# EAGLE library part STM32-H103 (library stm32)
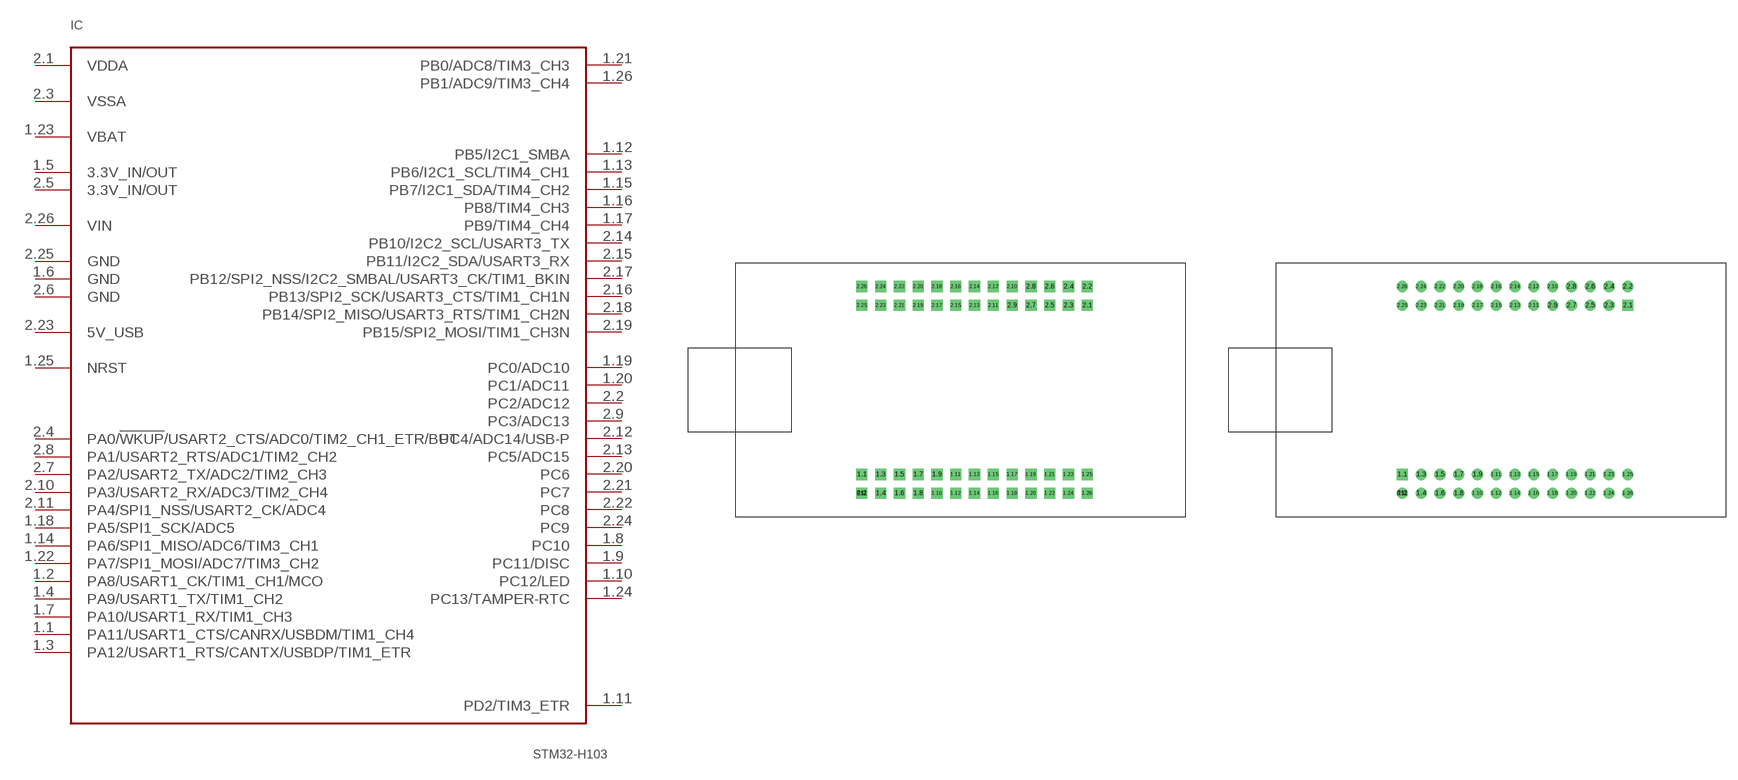
[diagram p6: symbol with the pads of OLIMEX_H103; footprints OLIMEX_H103, OLIMEX_H103_P]

Designator prefix IC

## STM32-H103-MH  [OLIMEX_H103]
1.1  PA11/USART1_CTS/CANRX/USBDM/TIM1_CH4
1.2  PA8/USART1_CK/TIM1_CH1/MCO
1.3  PA12/USART1_RTS/CANTX/USBDP/TIM1_ETR
1.4  PA9/USART1_TX/TIM1_CH2
1.5  3.3V_IN/OUT  pwr
1.6  GND  pwr
1.7  PA10/USART1_RX/TIM1_CH3
1.8  PC10
1.9  PC11/DISC
1.10  PC12/LED
1.11  PD2/TIM3_ETR
1.12  PB5/I2C1_SMBA
1.13  PB6/I2C1_SCL/TIM4_CH1
1.14  PA6/SPI1_MISO/ADC6/TIM3_CH1
1.15  PB7/I2C1_SDA/TIM4_CH2
1.16  PB8/TIM4_CH3
1.17  PB9/TIM4_CH4
1.18  PA5/SPI1_SCK/ADC5
1.19  PC0/ADC10
1.20  PC1/ADC11
1.21  PB0/ADC8/TIM3_CH3
1.22  PA7/SPI1_MOSI/ADC7/TIM3_CH2
1.23  VBAT  pwr
1.24  PC13/TAMPER-RTC
1.25  NRST
1.26  PB1/ADC9/TIM3_CH4
2.1  VDDA  pwr
2.2  PC2/ADC12
2.3  VSSA  pwr
2.4  PA0/!WKUP!/USART2_CTS/ADC0/TIM2_CH1_ETR/BUT
2.5  3.3V_IN/OUT  pwr
2.6  GND  pwr
2.7  PA2/USART2_TX/ADC2/TIM2_CH3
2.8  PA1/USART2_RTS/ADC1/TIM2_CH2
2.9  PC3/ADC13
2.10  PA3/USART2_RX/ADC3/TIM2_CH4
2.11  PA4/SPI1_NSS/USART2_CK/ADC4
2.12  PC4/ADC14/USB-P
2.13  PC5/ADC15
2.14  PB10/I2C2_SCL/USART3_TX
2.15  PB11/I2C2_SDA/USART3_RX
2.16  PB13/SPI2_SCK/USART3_CTS/TIM1_CH1N
2.17  PB12/SPI2_NSS/I2C2_SMBAL/USART3_CK/TIM1_BKIN
2.18  PB14/SPI2_MISO/USART3_RTS/TIM1_CH2N
2.19  PB15/SPI2_MOSI/TIM1_CH3N
2.20  PC6
2.21  PC7
2.22  PC8
2.23  5V_USB  pwr
2.24  PC9
2.25  GND  pwr
2.26  VIN  pwr

## STM32-H103  [OLIMEX_H103_P]
1.1  PA11/USART1_CTS/CANRX/USBDM/TIM1_CH4
1.2  PA8/USART1_CK/TIM1_CH1/MCO
1.3  PA12/USART1_RTS/CANTX/USBDP/TIM1_ETR
1.4  PA9/USART1_TX/TIM1_CH2
1.5  3.3V_IN/OUT  pwr
1.6  GND  pwr
1.7  PA10/USART1_RX/TIM1_CH3
1.8  PC10
1.9  PC11/DISC
1.10  PC12/LED
1.11  PD2/TIM3_ETR
1.12  PB5/I2C1_SMBA
1.13  PB6/I2C1_SCL/TIM4_CH1
1.14  PA6/SPI1_MISO/ADC6/TIM3_CH1
1.15  PB7/I2C1_SDA/TIM4_CH2
1.16  PB8/TIM4_CH3
1.17  PB9/TIM4_CH4
1.18  PA5/SPI1_SCK/ADC5
1.19  PC0/ADC10
1.20  PC1/ADC11
1.21  PB0/ADC8/TIM3_CH3
1.22  PA7/SPI1_MOSI/ADC7/TIM3_CH2
1.23  VBAT  pwr
1.24  PC13/TAMPER-RTC
1.25  NRST
1.26  PB1/ADC9/TIM3_CH4
2.1  VDDA  pwr
2.2  PC2/ADC12
2.3  VSSA  pwr
2.4  PA0/!WKUP!/USART2_CTS/ADC0/TIM2_CH1_ETR/BUT
2.5  3.3V_IN/OUT  pwr
2.6  GND  pwr
2.7  PA2/USART2_TX/ADC2/TIM2_CH3
2.8  PA1/USART2_RTS/ADC1/TIM2_CH2
2.9  PC3/ADC13
2.10  PA3/USART2_RX/ADC3/TIM2_CH4
2.11  PA4/SPI1_NSS/USART2_CK/ADC4
2.12  PC4/ADC14/USB-P
2.13  PC5/ADC15
2.14  PB10/I2C2_SCL/USART3_TX
2.15  PB11/I2C2_SDA/USART3_RX
2.16  PB13/SPI2_SCK/USART3_CTS/TIM1_CH1N
2.17  PB12/SPI2_NSS/I2C2_SMBAL/USART3_CK/TIM1_BKIN
2.18  PB14/SPI2_MISO/USART3_RTS/TIM1_CH2N
2.19  PB15/SPI2_MOSI/TIM1_CH3N
2.20  PC6
2.21  PC7
2.22  PC8
2.23  5V_USB  pwr
2.24  PC9
2.25  GND  pwr
2.26  VIN  pwr

## Footprint OLIMEX_H103 (pad centres in mm)
drill 1 square: 1.1 17.145,5.715; 1.2 17.145,3.175; 1.3 19.685,5.715; 1.4 19.685,3.175; 1.5 22.225,5.715; 1.6 22.225,3.175; 1.7 24.765,5.715; 1.8 24.765,3.175; 1.9 27.305,5.715; 1.10 27.305,3.175; 1.11 29.845,5.715; 1.12 29.845,3.175; 1.13 32.385,5.715; 1.14 32.385,3.175; 1.15 34.925,5.715; 1.16 34.925,3.175; 1.17 37.465,5.715; 1.18 37.465,3.175; 1.19 40.005,5.715; 1.20 40.005,3.175; 1.21 42.545,5.715; 1.22 42.545,3.175; 1.23 45.085,5.715; 1.24 45.085,3.175; 1.25 47.625,5.715; 1.26 47.625,3.175; 2.1 47.625,28.575; 2.2 47.625,31.115; 2.3 45.085,28.575; 2.4 45.085,31.115; 2.5 42.545,28.575; 2.6 42.545,31.115; 2.7 40.005,28.575; 2.8 40.005,31.115; 2.9 37.465,28.575; 2.10 37.465,31.115; 2.11 34.925,28.575; 2.12 34.925,31.115; 2.13 32.385,28.575; 2.14 32.385,31.115; 2.15 29.845,28.575; 2.16 29.845,31.115; 2.17 27.305,28.575; 2.18 27.305,31.115; 2.19 24.765,28.575; 2.20 24.765,31.115; 2.21 22.225,28.575; 2.22 22.225,31.115; 2.23 19.685,28.575; 2.24 19.685,31.115; 2.25 17.145,28.575; 2.26 17.145,31.115
drill 0.8 square: P$1 17.145,3.175

## Footprint OLIMEX_H103_P (pad centres in mm)
drill 1 square: 1.1 -13.335,-10.795; 2.1 17.145,12.065
drill 1 round: 1.2 -13.335,-13.335; 1.3 -10.795,-10.795; 1.4 -10.795,-13.335; 1.5 -8.255,-10.795; 1.6 -8.255,-13.335; 1.7 -5.715,-10.795; 1.8 -5.715,-13.335; 1.9 -3.175,-10.795; 1.10 -3.175,-13.335; 1.11 -0.635,-10.795; 1.12 -0.635,-13.335; 1.13 1.905,-10.795; 1.14 1.905,-13.335; 1.15 4.445,-10.795; 1.16 4.445,-13.335; 1.17 6.985,-10.795; 1.18 6.985,-13.335; 1.19 9.525,-10.795; 1.20 9.525,-13.335; 1.21 12.065,-10.795; 1.22 12.065,-13.335; 1.23 14.605,-10.795; 1.24 14.605,-13.335; 1.25 17.145,-10.795; 1.26 17.145,-13.335; 2.2 17.145,14.605; 2.3 14.605,12.065; 2.4 14.605,14.605; 2.5 12.065,12.065; 2.6 12.065,14.605; 2.7 9.525,12.065; 2.8 9.525,14.605; 2.9 6.985,12.065; 2.10 6.985,14.605; 2.11 4.445,12.065; 2.12 4.445,14.605; 2.13 1.905,12.065; 2.14 1.905,14.605; 2.15 -0.635,12.065; 2.16 -0.635,14.605; 2.17 -3.175,12.065; 2.18 -3.175,14.605; 2.19 -5.715,12.065; 2.20 -5.715,14.605; 2.21 -8.255,12.065; 2.22 -8.255,14.605; 2.23 -10.795,12.065; 2.24 -10.795,14.605; 2.25 -13.335,12.065; 2.26 -13.335,14.605
drill 0.8 round: P$1 -13.335,-13.335